# Altium footprint library CWX.PcbLib: 19 footprints (part 1 of 2)
Each footprint in its own frame and in the unit in brackets; x right, y up, seen from the top. Pads: shape width x height; smd on the part's side, far side on the other; paste and mask are expansions set on the pad; w line width, h text height; cw(c..) or ccw(c..) is an arc to the next point about the centre after c.
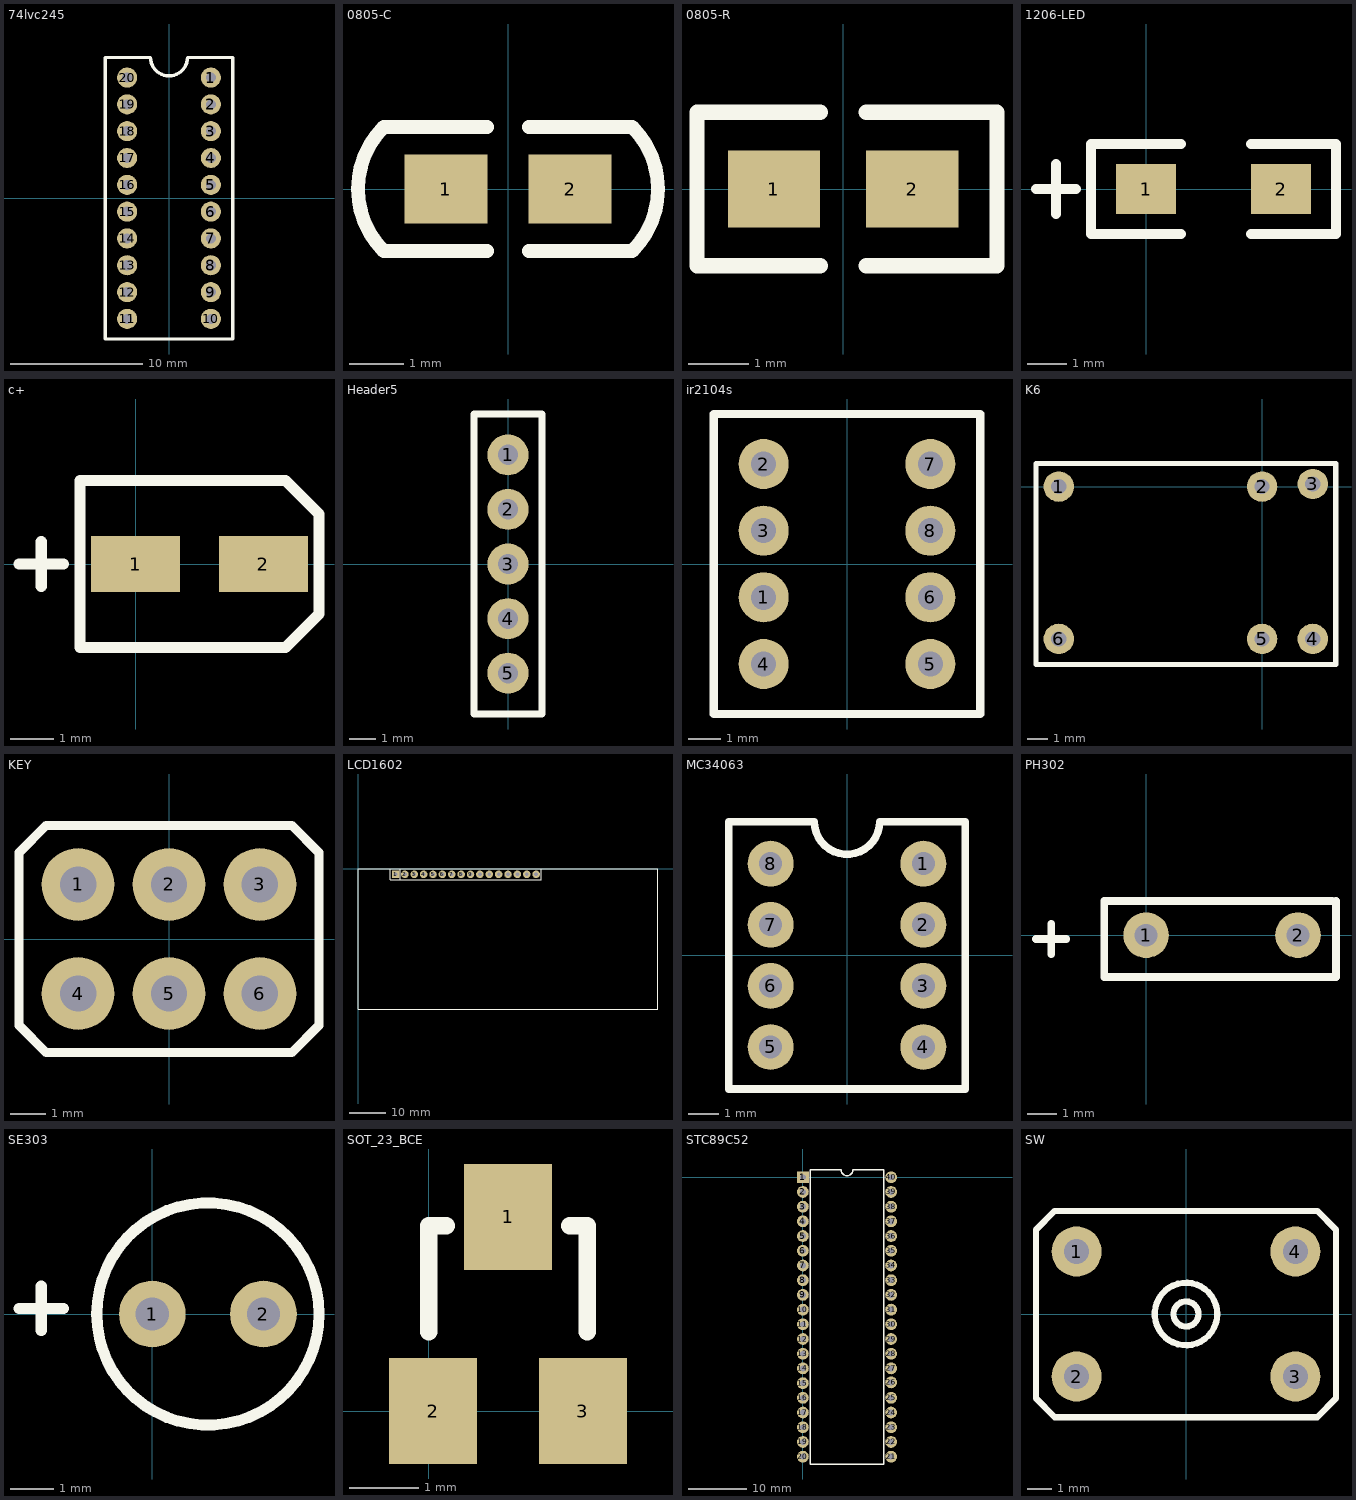
[diagram p0: the footprints below, top view; thin cyan lines are the x and y axes]

## 74lvc245 [mil]
pads (20):
  round 60 hole 30: 1(125,360) 2(125,280) 3(125,200) 4(125,120) 5(125,40) 6(125,-40) 7(125,-120) 8(125,-200) 9(125,-280) 10(125,-360) 11(-125,-360) 12(-125,-280) 13(-125,-200) 14(-125,-120) 15(-125,-40) 16(-125,40) 17(-125,120) 18(-125,200) 19(-125,280) 20(-125,360)
Top Overlay:
  lines w10: -190,-420 -190,420 -55,420 ccw(c0,420) 55,420 190,420 190,-420 -190,-420

## 0805-C [mil]
pads (2):
  rect 60x50 smd: 1(-45,0) 2(45,0)
Top Overlay:
  lines w10: -15,-45 -90,-45 cw(c-45,0) -90,45 -15,45 ; 15,-45 90,-45 ccw(c45,0) 90,45 15,45

## 0805-R [mil]
pads (2):
  rect 60x50 smd: 1(-45,0) 2(45,0)
Top Overlay:
  lines w10: -15,-50 -95,-50 -95,50 -15,50 ; 15,-50 100,-50 100,50 95,50 15,50

## 1206-LED [mil]
pads (2):
  rect 60x50 smd: 1(0,0) 2(135,0)
Top Overlay:
  lines w10: -110,0 -70,0 ; -90,-25 -90,25 ; 35,-45 -55,-45 -55,45 35,45 ; 105,-45 190,-45 190,45 105,45

## c+ [mil]
pads (2):
  rect 80x50 smd: 1(0,0) 2(115,0)
Top Overlay:
  lines w10: -105,0 -65,0 ; -85,-20 -85,20 ; -50,-75 135,-75 165,-45 165,45 135,75 -50,75 -50,-75

## Header5 [mil]
pads (5):
  round 60 hole 30: 1(0,160) 2(0,80) 3(0,0) 4(0,-80) 5(0,-160)
Top Overlay:
  lines w10: -50,-220 -50,220 50,220 50,-220 -50,-220

## ir2104s [mil]
pads (8):
  round 60 hole 30: 1(-100,-40) 2(-100,120) 3(-100,40) 4(-100,-120) 5(100,-120) 6(100,-40) 7(100,120) 8(100,40)
Top Overlay:
  lines w10: -160,-180 -160,180 160,180 160,-180 -160,-180

## K6 [mil]
pads (6):
  round 60 hole 30: 1(-400,0) 2(0,0) 3(100,5) 4(100,-300) 5(0,-300) 6(-400,-300)
Top Overlay:
  lines w10: -445,43.7 -445,-350 145.55,-350 ; -445,45 145.55,45 ; 145,-350 145,43.7

## KEY [mil]
pads (6):
  round 80 hole 40: 1(-100,60) 2(0,60) 3(100,60) 4(-100,-60) 5(0,-60) 6(100,-60)
Top Overlay:
  lines w10: -165,-95 -135,-125 135,-125 165,-95 165,95 135,125 -135,125 -165,95 -165,-95

## LCD1602 [mil]
pads (16):
  rect 80x80 hole 40: 1(400,-60)
  round 80 hole 40: 2(500,-60) 3(600,-60) 4(700,-60) 5(800,-60) 6(900,-60) 7(1000,-60) 8(1100,-60) 9(1200,-60) 10(1300,-60) 11(1400,-60) 12(1500,-60) 13(1600,-60) 14(1700,-60) 15(1800,-60) 16(1900,-60)
Top Overlay:
  lines w10: 450,-115 450,-5 ; 1955,0 1955,-120 345,-120 345,0 345,-10 ; 345,-10 345,-110 345,-10 ; 0,-1500 0,0 3200,0 3200,-1500 0,-1500

## MC34063 [mil]
pads (8):
  round 60 hole 30: 1(100,120) 2(100,40) 3(100,-40) 4(100,-120) 5(-100,-120) 6(-100,-40) 7(-100,40) 8(-100,120)
Top Overlay:
  lines w10: -155,-175 -155,175 -42.72,175 ccw(c0,175) 42.72,175 155,175 155,-175 -155,-175

## PH302 [mil]
pads (2):
  round 60 hole 30: 1(0,0) 2(200,0)
Top Overlay:
  lines w10: -145,-5 -105,-5 ; -125,-25 -125,15 ; 245,45 -55,45 -55,-55 250,-55 250,45

## SE303 [mil]
pads (2):
  round 60 hole 30: 1(0,0) 2(100,0)
Top Overlay:
  circle w10: c50,0 r100
  lines w10: -120,5 -80,5 ; -100,-15 -100,-5 -100,25

## SOT_23_BCE [mil]
pads (3):
  rect 50x60 smd: 1(45,110) 2(2.5,0) 3(87.5,0)
Top Overlay:
  lines w10: 0,45 0,105 10,105 ; 80,105 90,105 90,45

## STC89C52 [mil]
pads (40):
  rect 80x80 hole 40: 1(0,0)
  round 80 hole 40: 2(0,-100) 3(0,-200) 4(0,-300) 5(0,-400) 6(0,-500) 7(0,-600) 8(0,-700) 9(0,-800) 10(0,-900) 11(0,-1000) 12(0,-1100) 13(0,-1200) 14(0,-1300) 15(0,-1400) 16(0,-1500) 17(0,-1600) 18(0,-1700) 19(0,-1800) 20(0,-1900) 21(600,-1900) 22(600,-1800) 23(600,-1700) 24(600,-1600) 25(600,-1500) 26(600,-1395) 27(600,-1300) 28(600,-1200) 29(600,-1100) 30(600,-1000) 31(600,-900) 32(600,-800) 33(600,-700) 34(600,-600) 35(600,-500) 36(600,-400) 37(600,-300) 38(600,-200) 39(600,-100) 40(600,0)
Top Overlay:
  lines w10: 50,-1950 550,-1950 550,50 340,50 cw(c300,50) 260,50 50,50 50,-1950

## SW [mil]
pads (4):
  round 80 hole 40: 1(-175,100) 2(-175,-100) 3(175,-100) 4(175,100)
Top Overlay:
  circle w10: c0,0 r50
  circle w10: c0,0 r20
  lines w10: -240,-135 -240,135 -210,165 210,165 240,135 240,-135 210,-165 -210,-165 -240,-135